# EAGLE library part CNHDR036M3-1/1X6 (library Traficon)
PIN HEADER
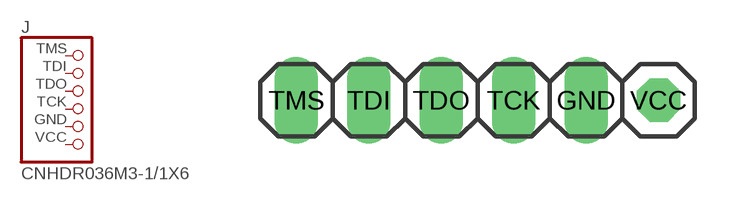
[diagram p37: symbol with the pads of 1X06; footprint 1X06]

Designator prefix J

## CNHDR036M3-1/1X6  [1X06]
GND  5  pas
TCK  4  pas
TDI  2  pas
TDO  3  pas
TMS  1  pas
VCC  6  pas

## Footprint 1X06 (pad centres in mm)
PIN HEADER
drill 1.016 long: GND 3.81,0; TCK 1.27,0; TDI -3.81,0; TDO -1.27,0; TMS -6.35,0
drill 1.016 octagon: VCC 6.35,0